# Altium footprint library SparkFun-Connectors.PCBLIB: 344 footprints (part 15 of 22)
Each footprint in its own frame and in the unit in brackets; x right, y up, seen from the top. Pads: shape width x height; smd on the part's side, far side on the other; paste and mask are expansions set on the pad; w line width, h text height; cw(c..) or ccw(c..) is an arc to the next point about the centre after c.
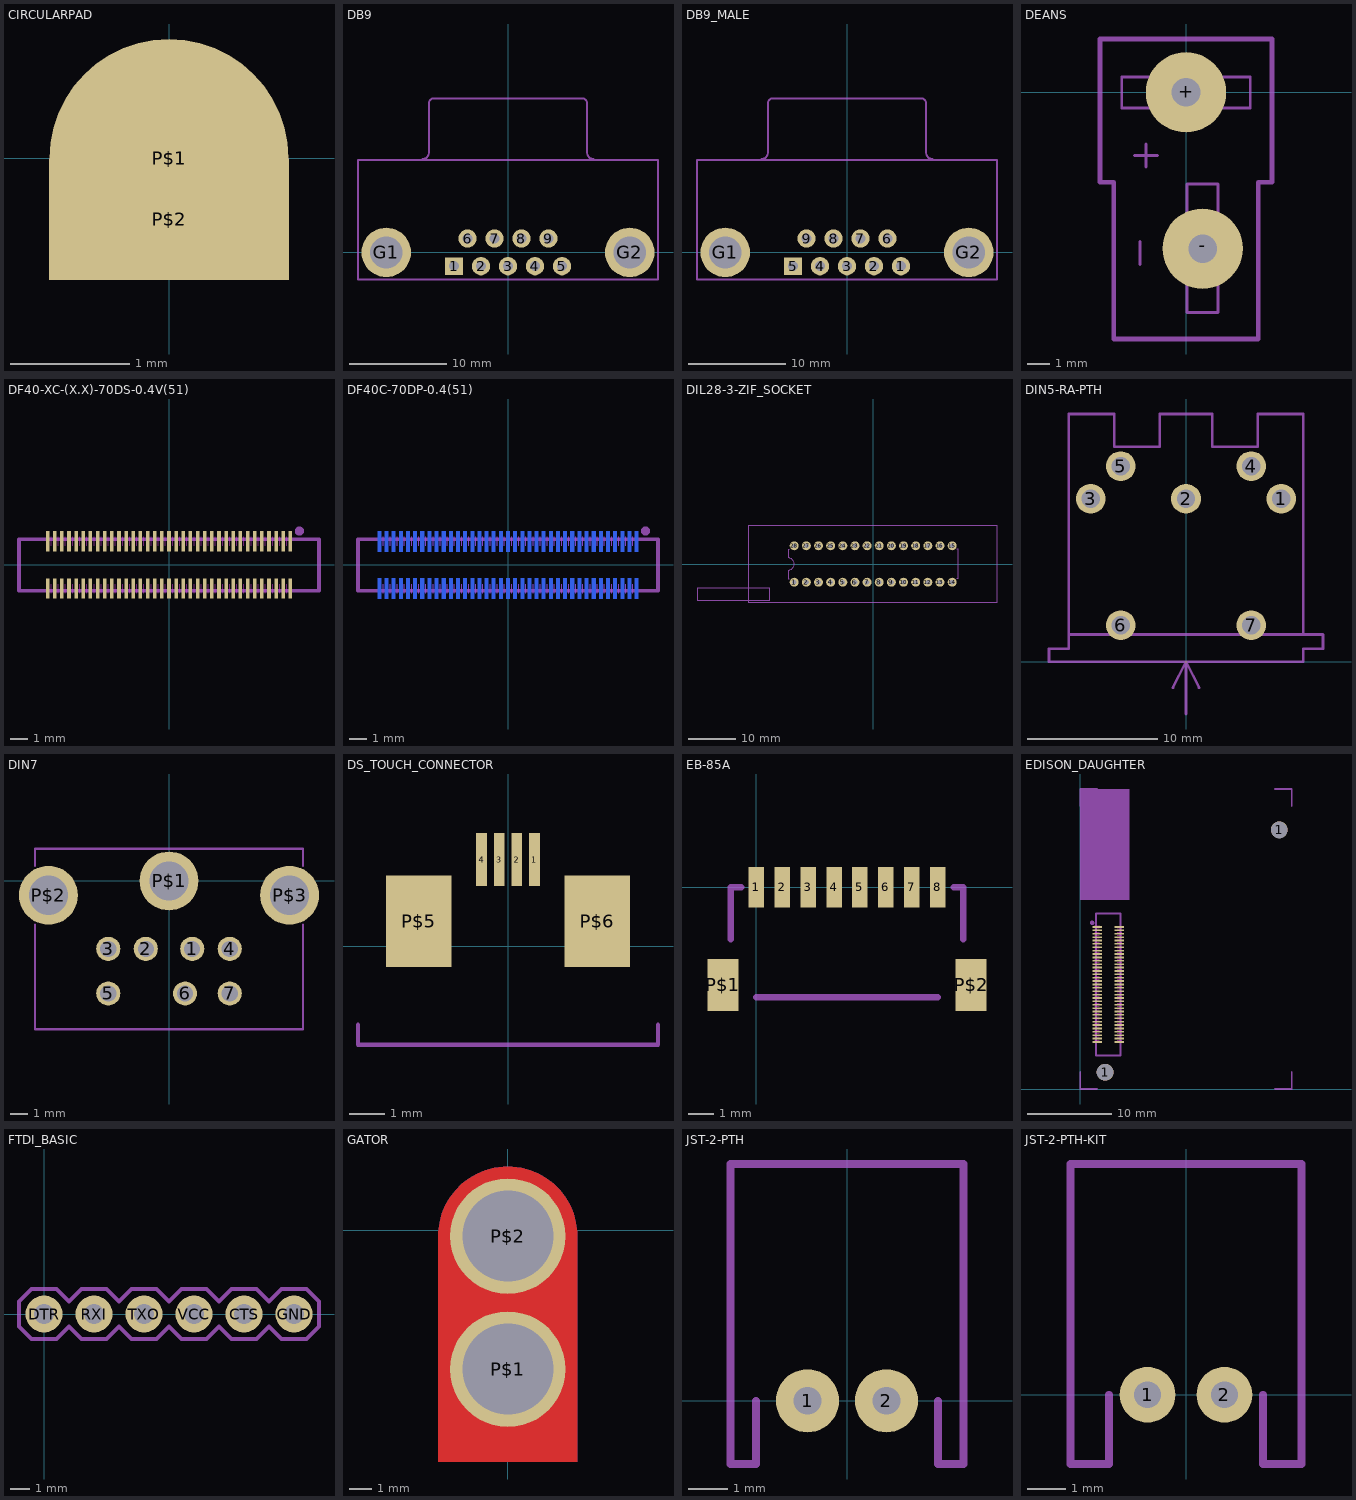
[diagram p14: the footprints below, top view; thin cyan lines are the x and y axes]

## CIRCULARPAD [mil]
pads (2):
  rrect100% 78.74x78.74 smd: P$1(0,0)
  rect 79x40 smd: P$2(0,-20)

## DB9 [mil]
pads (11):
  rect 71.65x71.65 / inner rect 60x60 / far side rect 71.65x71.65 hole 40: 1(-218.11,-55.91)
  round 74 / inner round 60 / far side round 74 hole 40: 2(-109.06,-55.91) 3(0,-55.91) 4(109.06,-55.91) 5(218.11,-55.91) 6(-163.39,55.91) 7(-54.33,55.91) 8(54.33,55.91) 9(163.39,55.91)
  round 200 / inner round 60 / far side round 200 hole 130: G1(-492.13,0) G2(492.13,0)
Mechanical 8:
  lines w8: -606.3,100.1 -606.3,374.02 606.3,374.02 606.3,100 ; -345,377.32 ccw(c-345,402.32) -320,402.32 -320,602.32 cw(c-300,602.32) -300,622.32 300,622.32 cw(c300,602.32) 320,602.32 320,402.32 ccw(c345,402.32) 345,377.32
Mechanical 22:
  lines w8: -606.3,100 -606.3,-110.24 606.3,-110.24 606.3,100

## DB9_MALE [mil]
pads (11):
  round 74 / inner round 60 / far side round 74 hole 40: 1(218.11,-55.91) 2(109.06,-55.91) 3(0,-55.91) 4(-109.06,-55.91) 6(163.39,55.91) 7(54.33,55.91) 8(-54.33,55.91) 9(-163.39,55.91)
  rect 71.65x71.65 / inner rect 60x60 / far side rect 71.65x71.65 hole 40: 5(-218.11,-55.91)
  round 200 / inner round 60 / far side round 200 hole 130: G1(-492.13,0) G2(492.13,0)
Mechanical 8:
  lines w8: -606.3,100.1 -606.3,374.02 606.3,374.02 606.3,100 ; -345,377.32 ccw(c-345,402.32) -320,402.32 -320,602.32 cw(c-300,602.32) -300,622.32 300,622.32 cw(c300,602.32) 320,602.32 320,402.32 ccw(c345,402.32) 345,377.32
Mechanical 22:
  lines w8: -606.3,100 -606.3,-110.24 606.3,-110.24 606.3,100

## DEANS [mil]
pads (2):
  round 140 / inner round 60 / far side round 140 hole 50: +(0,0) -(29,-272.5)
Mechanical 1:
  lines w5: -112,-27 112,-27 112,27 -112,27 -112,-27 ; 2,-384 2,-160 56,-160 56,-384 2,-384
Mechanical 22:
  lines w5: -90,-110 -50,-110 ; -80,-300 -80,-260 ; -70,-130 -70,-90
  lines w8: -150,-157 -150,93 150,93 150,-157 126,-157 126,-430 -126,-430 -126,-157 -150,-157

## DF40-XC-(X.X)-70DS-0.4V(51) [mm]
pads (70):
  rect 0.2x1.14 smd: 1(6.8,1.32) 2(6.8,-1.32) 3(6.4,1.32) 4(6.4,-1.32) 5(6,1.32) 6(6,-1.32) 7(5.6,1.32) 8(5.6,-1.32) 9(5.2,1.32) 10(5.2,-1.32) 11(4.8,1.32) 12(4.8,-1.32) 13(4.4,1.32) 14(4.4,-1.32) 15(4,1.32) 16(4,-1.32) 17(3.6,1.32) 18(3.6,-1.32) 19(3.2,1.32) 20(3.2,-1.32) 21(2.8,1.32) 22(2.8,-1.32) 23(2.4,1.32) 24(2.4,-1.32) 25(2,1.32) 26(2,-1.32) 27(1.6,1.32) 28(1.6,-1.32) 29(1.2,1.32) 30(1.2,-1.32) 31(0.8,1.32) 32(0.8,-1.32) 33(0.4,1.32) 34(0.4,-1.32) 35(0,1.32) 36(0,-1.32) 37(-0.4,1.32) 38(-0.4,-1.32) 39(-0.8,1.32) 40(-0.8,-1.32) 41(-1.2,1.32) 42(-1.2,-1.32) 43(-1.6,1.32) 44(-1.6,-1.32) 45(-2,1.32) 46(-2,-1.32) 47(-2.4,1.32) 48(-2.4,-1.32) 49(-2.8,1.32) 50(-2.8,-1.32) 51(-3.2,1.32) 52(-3.2,-1.32) 53(-3.6,1.32) 54(-3.6,-1.32) 55(-4,1.32) 56(-4,-1.32) 57(-4.4,1.32) 58(-4.4,-1.32) 59(-4.8,1.32) 60(-4.8,-1.32) 61(-5.2,1.32) 62(-5.2,-1.32) 63(-5.6,1.32) 64(-5.6,-1.32) 65(-6,1.32) 66(-6,-1.32) 67(-6.4,1.32) 68(-6.4,-1.32) 69(-6.8,1.32) 70(-6.8,-1.32)
Top Layer keep-out:
  lines w0.051: -6.6,-1.581 -6.6,-1.069 ; -6.6,1.064 -6.6,1.576 ; -6.2,-1.581 -6.2,-1.069 ; -6.2,1.064 -6.2,1.576 ; -5.8,-1.581 -5.8,-1.069 ; -5.8,1.064 -5.8,1.576 ; -5.4,-1.581 -5.4,-1.069 ; -5.4,1.064 -5.4,1.576 ; -5,-1.581 -5,-1.069 ; -5,1.064 -5,1.576 ; -4.6,-1.581 -4.6,-1.069 ; -4.6,1.064 -4.6,1.576 ; -4.2,-1.581 -4.2,-1.069 ; -4.2,1.064 -4.2,1.576 ; -3.8,-1.581 -3.8,-1.069 ; -3.8,1.064 -3.8,1.576 ; -3.4,-1.581 -3.4,-1.069 ; -3.4,1.064 -3.4,1.576 ; -3,-1.581 -3,-1.069 ; -3,1.064 -3,1.576 ; -2.6,-1.581 -2.6,-1.069 ; -2.6,1.064 -2.6,1.576 ; -2.2,-1.581 -2.2,-1.069 ; -2.2,1.064 -2.2,1.576 ; -1.8,-1.581 -1.8,-1.069 ; -1.8,1.064 -1.8,1.576 ; -1.4,-1.581 -1.4,-1.069 ; -1.4,1.064 -1.4,1.576 ; -1,-1.581 -1,-1.069 ; -1,1.064 -1,1.576 ; -0.6,-1.581 -0.6,-1.069 ; -0.6,1.064 -0.6,1.576 ; -0.2,-1.581 -0.2,-1.069 ; -0.2,1.064 -0.2,1.576 ; 0.2,-1.581 0.2,-1.069 ; 0.2,1.064 0.2,1.576 ; 0.6,-1.581 0.6,-1.069 ; 0.6,1.064 0.6,1.576 ; 1,-1.581 1,-1.069 ; 1,1.064 1,1.576 ; 1.4,-1.581 1.4,-1.069 ; 1.4,1.064 1.4,1.576 ; 1.8,-1.581 1.8,-1.069 ; 1.8,1.064 1.8,1.576 ; 2.2,-1.581 2.2,-1.069 ; 2.2,1.064 2.2,1.576 ; 2.6,-1.581 2.6,-1.069 ; 2.6,1.064 2.6,1.576 ; 3,-1.581 3,-1.069 ; 3,1.064 3,1.576 ; 3.4,-1.581 3.4,-1.069 ; 3.4,1.064 3.4,1.576 ; 3.8,-1.581 3.8,-1.069 ; 3.8,1.064 3.8,1.576 ; 4.2,-1.581 4.2,-1.069 ; 4.2,1.064 4.2,1.576 ; 4.6,-1.581 4.6,-1.069 ; 4.6,1.064 4.6,1.576 ; 5,-1.581 5,-1.069 ; 5,1.064 5,1.576 ; 5.4,-1.581 5.4,-1.069 ; 5.4,1.064 5.4,1.576 ; 5.8,-1.581 5.8,-1.069 ; 5.8,1.064 5.8,1.576 ; 6.2,-1.581 6.2,-1.069 ; 6.2,1.064 6.2,1.576 ; 6.6,-1.581 6.6,-1.069 ; 6.6,1.064 6.6,1.576
Mechanical 22:
  circle w0.305: c7.3,1.9 r0.1
  lines w0.203: -8.4,-1.44 8.4,-1.44 8.4,1.44 -8.4,1.44 -8.4,-1.44

## DF40C-70DP-0.4(51) [mm]
pads (74):
  rect 0.2x1.14 smd far side: 1(6.8,1.32) 2(6.8,-1.32) 3(6.4,1.32) 4(6.4,-1.32) 5(6,1.32) 6(6,-1.32) 7(5.6,1.32) 8(5.6,-1.32) 9(5.2,1.32) 10(5.2,-1.32) 11(4.8,1.32) 12(4.8,-1.32) 13(4.4,1.32) 14(4.4,-1.32) 15(4,1.32) 16(4,-1.32) 17(3.6,1.32) 18(3.6,-1.32) 19(3.2,1.32) 20(3.2,-1.32) 21(2.8,1.32) 22(2.8,-1.32) 23(2.4,1.32) 24(2.4,-1.32) 25(2,1.32) 26(2,-1.32) 27(1.6,1.32) 28(1.6,-1.32) 29(1.2,1.32) 30(1.2,-1.32) 31(0.8,1.32) 32(0.8,-1.32) 33(0.4,1.32) 34(0.4,-1.32) 35(0,1.32) 36(0,-1.32) 37(-0.4,1.32) 38(-0.4,-1.32) 39(-0.8,1.32) 40(-0.8,-1.32) 41(-1.2,1.32) 42(-1.2,-1.32) 43(-1.6,1.32) 44(-1.6,-1.32) 45(-2,1.32) 46(-2,-1.32) 47(-2.4,1.32) 48(-2.4,-1.32) 49(-2.8,1.32) 50(-2.8,-1.32) 51(-3.2,1.32) 52(-3.2,-1.32) 53(-3.6,1.32) 54(-3.6,-1.32) 55(-4,1.32) 56(-4,-1.32) 57(-4.4,1.32) 58(-4.4,-1.32) 59(-4.8,1.32) 60(-4.8,-1.32) 61(-5.2,1.32) 62(-5.2,-1.32) 63(-5.6,1.32) 64(-5.6,-1.32) 65(-6,1.32) 66(-6,-1.32) 67(-6.4,1.32) 68(-6.4,-1.32) 69(-6.8,1.32) 70(-6.8,-1.32) NC1(7.2,1.32) NC2(7.2,-1.32) NC3(-7.2,-1.32) NC4(-7.2,1.32)
Bottom Layer keep-out:
  lines w0.051: -7,-1.581 -7,-1.069 ; -7,1.064 -7,1.576 ; -6.6,-1.581 -6.6,-1.069 ; -6.6,1.064 -6.6,1.576 ; -6.2,-1.581 -6.2,-1.069 ; -6.2,1.064 -6.2,1.576 ; -5.8,-1.581 -5.8,-1.069 ; -5.8,1.064 -5.8,1.576 ; -5.4,-1.581 -5.4,-1.069 ; -5.4,1.064 -5.4,1.576 ; -5,-1.581 -5,-1.069 ; -5,1.064 -5,1.576 ; -4.6,-1.581 -4.6,-1.069 ; -4.6,1.064 -4.6,1.576 ; -4.2,-1.581 -4.2,-1.069 ; -4.2,1.064 -4.2,1.576 ; -3.8,-1.581 -3.8,-1.069 ; -3.8,1.064 -3.8,1.576 ; -3.4,-1.581 -3.4,-1.069 ; -3.4,1.064 -3.4,1.576 ; -3,-1.581 -3,-1.069 ; -3,1.064 -3,1.576 ; -2.6,-1.581 -2.6,-1.069 ; -2.6,1.064 -2.6,1.576 ; -2.2,-1.581 -2.2,-1.069 ; -2.2,1.064 -2.2,1.576 ; -1.8,-1.581 -1.8,-1.069 ; -1.8,1.064 -1.8,1.576 ; -1.4,-1.581 -1.4,-1.069 ; -1.4,1.064 -1.4,1.576 ; -1,-1.581 -1,-1.069 ; -1,1.064 -1,1.576 ; -0.6,-1.581 -0.6,-1.069 ; -0.6,1.064 -0.6,1.576 ; -0.2,-1.581 -0.2,-1.069 ; -0.2,1.064 -0.2,1.576 ; 0.2,-1.581 0.2,-1.069 ; 0.2,1.064 0.2,1.576 ; 0.6,-1.581 0.6,-1.069 ; 0.6,1.064 0.6,1.576 ; 1,-1.581 1,-1.069 ; 1,1.064 1,1.576 ; 1.4,-1.581 1.4,-1.069 ; 1.4,1.064 1.4,1.576 ; 1.8,-1.581 1.8,-1.069 ; 1.8,1.064 1.8,1.576 ; 2.2,-1.581 2.2,-1.069 ; 2.2,1.064 2.2,1.576 ; 2.6,-1.581 2.6,-1.069 ; 2.6,1.064 2.6,1.576 ; 3,-1.581 3,-1.069 ; 3,1.064 3,1.576 ; 3.4,-1.581 3.4,-1.069 ; 3.4,1.064 3.4,1.576 ; 3.8,-1.581 3.8,-1.069 ; 3.8,1.064 3.8,1.576 ; 4.2,-1.581 4.2,-1.069 ; 4.2,1.064 4.2,1.576 ; 4.6,-1.581 4.6,-1.069 ; 4.6,1.064 4.6,1.576 ; 5,-1.581 5,-1.069 ; 5,1.064 5,1.576 ; 5.4,-1.581 5.4,-1.069 ; 5.4,1.064 5.4,1.576 ; 5.8,-1.581 5.8,-1.069 ; 5.8,1.064 5.8,1.576 ; 6.2,-1.581 6.2,-1.069 ; 6.2,1.064 6.2,1.576 ; 6.6,-1.581 6.6,-1.069 ; 6.6,1.064 6.6,1.576 ; 7,-1.581 7,-1.069 ; 7,1.064 7,1.576
Mechanical 23:
  circle w0.305: c7.7,1.9 r0.1
  lines w0.203: -8.4,-1.44 8.4,-1.44 8.4,1.44 -8.4,1.44 -8.4,-1.44

## DIL28-3-ZIF_SOCKET [mil]
pads (28):
  round 74 / inner round 60 / far side round 74 hole 40: 1(-650,-150) 2(-550,-150) 3(-450,-150) 4(-350,-150) 5(-250,-150) 6(-150,-150) 7(-50,-150) 8(50,-150) 9(150,-150) 10(250,-150) 11(350,-150) 12(450,-150) 13(550,-150) 14(650,-150) 15(650,150) 16(550,150) 17(450,150) 18(350,150) 19(250,150) 20(150,150) 21(50,150) 22(-50,150) 23(-150,150) 24(-250,150) 25(-350,150) 26(-450,150) 27(-550,150) 28(-650,150)
Mechanical 8:
  lines w5: -1027.99,-314.96 1019.25,-314.96 1019.25,314.96 -1027.99,314.96 -1027.99,-314.96
  lines w10: -1450,-300 -1450,-200 -850,-200 -850,-300 -1450,-300
Mechanical 22:
  lines w8: -690,-120 -700,-120 -700,-50 ccw(c-700,0) -700,50 -700,120 -690,120 ; 690,-120 700,-120 700,120 690,120

## DIN5-RA-PTH [mil]
pads (7):
  round 90 / inner round 60 / far side round 90 hole 55.12: 1(287.4,492.13) 2(0,492.13) 3(-287.4,492.13) 4(196.85,590.55) 5(-196.85,590.55) 6(-196.85,110.24) 7(196.85,110.24)
Mechanical 8:
  lines w8: -157.48,0 0,0 ; -39.37,-78.74 0,0 ; 0,-157.48 0,0 ; 39.37,-78.74 0,0 ; 157.48,0 0,0
Mechanical 22:
  lines w8: -354.33,78.74 -354.33,39.37 -413.39,39.37 -413.39,0 354.33,0 354.33,39.37 413.39,39.37 413.39,82.68 354.33,82.68 ; 354.33,82.68 354.33,748.03 216.54,748.03 216.54,649.61 78.74,649.61 78.74,748.03 -78.74,748.03 -78.74,649.61 -216.54,649.61 -216.54,748.03 -354.33,748.03 -354.33,82.68 354.33,82.68

## DIN7 [mil]
pads (10):
  round 53.15 / inner round 60 / far side round 53.15 hole 35.43: 1(51.18,-149.61) 2(-51.18,-149.61) 3(-133.86,-149.61) 4(133.86,-149.61) 5(-133.86,-248.03) 6(35.43,-248.03) 7(133.86,-248.03)
  round 129.91 / inner round 60 / far side round 129.91 hole 86.61: P$1(0,0) P$2(-265.75,-31.5) P$3(265.75,-31.5)
Mechanical 22:
  lines w5: -295.28,-96.46 -295.28,-326.77 295.28,-326.77 295.28,-96.46 ; -295.28,33.46 -295.28,70.87 295.28,70.87 295.28,33.46

## DS_TOUCH_CONNECTOR [mm]
pads (6):
  rect 0.3x1.5 smd: 1(0.75,2.45) 2(0.25,2.45) 3(-0.25,2.45) 4(-0.75,2.45)
  rect 1.85x2.6 smd: P$5(-2.525,0.7) P$6(2.525,0.7)
Mechanical 22:
  lines w0.127: -4.25,-2.23 -4.25,-2.8 4.25,-2.8 4.25,-2.23

## EB-85A [mm]
pads (10):
  rect 0.6x1.55 smd: 1(0,0) 2(1,0) 3(2,0) 4(3,0) 5(4,0) 6(5,0) 7(6,0) 8(7,0)
  rect 1.2x2 smd: P$1(-1.3,-3.775) P$2(8.3,-3.775)
Mechanical 22:
  lines w0.254: -1,-2 -1,0 -0.6,0 ; 0,-4.25 7,-4.25 ; 7.625,0 8,0 8,-2

## EDISON_DAUGHTER [mm]
pads (72):
  rect 1.14x0.2 smd: 1(1.98,19.17) 2(4.62,19.17) 3(1.98,18.77) 4(4.62,18.77) 5(1.98,18.37) 6(4.62,18.37) 7(1.98,17.97) 8(4.62,17.97) 9(1.98,17.57) 10(4.62,17.57) 11(1.98,17.17) 12(4.62,17.17) 13(1.98,16.77) 14(4.62,16.77) 15(1.98,16.37) 16(4.62,16.37) 17(1.98,15.97) 18(4.62,15.97) 19(1.98,15.57) 20(4.62,15.57) 21(1.98,15.17) 22(4.62,15.17) 23(1.98,14.77) 24(4.62,14.77) 25(1.98,14.37) 26(4.62,14.37) 27(1.98,13.97) 28(4.62,13.97) 29(1.98,13.57) 30(4.62,13.57) 31(1.98,13.17) 32(4.62,13.17) 33(1.98,12.77) 34(4.62,12.77) 35(1.98,12.37) 36(4.62,12.37) 37(1.98,11.97) 38(4.62,11.97) 39(1.98,11.57) 40(4.62,11.57) 41(1.98,11.17) 42(4.62,11.17) 43(1.98,10.77) 44(4.62,10.77) 45(1.98,10.37) 46(4.62,10.37) 47(1.98,9.97) 48(4.62,9.97) 49(1.98,9.57) 50(4.62,9.57) 51(1.98,9.17) 52(4.62,9.17) 53(1.98,8.77) 54(4.62,8.77) 55(1.98,8.37) 56(4.62,8.37) 57(1.98,7.97) 58(4.62,7.97) 59(1.98,7.57) 60(4.62,7.57) 61(1.98,7.17) 62(4.62,7.17) 63(1.98,6.77) 64(4.62,6.77) 65(1.98,6.37) 66(4.62,6.37) 67(1.98,5.97) 68(4.62,5.97) 69(1.98,5.57) 70(4.62,5.57)
  round 2 hole 2 unplated: 1(2.93,1.98) 1(23.53,30.67)
Top Layer keep-out:
  lines w0.025: 1.663,19.319 2.297,19.319
  lines w0.051: 1.724,5.77 2.236,5.77 ; 1.724,6.17 2.236,6.17 ; 1.724,6.57 2.236,6.57 ; 1.724,6.97 2.236,6.97 ; 1.724,7.37 2.236,7.37 ; 1.724,7.77 2.236,7.77 ; 1.724,8.17 2.236,8.17 ; 1.724,8.57 2.236,8.57 ; 1.724,8.97 2.236,8.97 ; 1.724,9.37 2.236,9.37 ; 1.724,9.77 2.236,9.77 ; 1.724,10.17 2.236,10.17 ; 1.724,10.57 2.236,10.57 ; 1.724,10.97 2.236,10.97 ; 1.724,11.37 2.236,11.37 ; 1.724,11.77 2.236,11.77 ; 1.724,12.17 2.236,12.17 ; 1.724,12.57 2.236,12.57 ; 1.724,12.97 2.236,12.97 ; 1.724,13.37 2.236,13.37 ; 1.724,13.77 2.236,13.77 ; 1.724,14.17 2.236,14.17 ; 1.724,14.57 2.236,14.57 ; 1.724,14.97 2.236,14.97 ; 1.724,15.37 2.236,15.37 ; 1.724,15.77 2.236,15.77 ; 1.724,16.17 2.236,16.17 ; 1.724,16.57 2.236,16.57 ; 1.724,16.97 2.236,16.97 ; 1.724,17.37 2.236,17.37 ; 1.724,17.77 2.236,17.77 ; 1.724,18.17 2.236,18.17 ; 1.724,18.57 2.236,18.57 ; 1.724,18.97 2.236,18.97 ; 4.369,5.77 4.881,5.77 ; 4.369,6.17 4.881,6.17 ; 4.369,6.57 4.881,6.57 ; 4.369,6.97 4.881,6.97 ; 4.369,7.37 4.881,7.37 ; 4.369,7.77 4.881,7.77 ; 4.369,8.17 4.881,8.17 ; 4.369,8.57 4.881,8.57 ; 4.369,8.97 4.881,8.97 ; 4.369,9.37 4.881,9.37 ; 4.369,9.77 4.881,9.77 ; 4.369,10.17 4.881,10.17 ; 4.369,10.57 4.881,10.57 ; 4.369,10.97 4.881,10.97 ; 4.369,11.37 4.881,11.37 ; 4.369,11.77 4.881,11.77 ; 4.369,12.17 4.881,12.17 ; 4.369,12.57 4.881,12.57 ; 4.369,12.97 4.881,12.97 ; 4.369,13.37 4.881,13.37 ; 4.369,13.77 4.881,13.77 ; 4.369,14.17 4.881,14.17 ; 4.369,14.57 4.881,14.57 ; 4.369,14.97 4.881,14.97 ; 4.369,15.37 4.881,15.37 ; 4.369,15.77 4.881,15.77 ; 4.369,16.17 4.881,16.17 ; 4.369,16.57 4.881,16.57 ; 4.369,16.97 4.881,16.97 ; 4.369,17.37 4.881,17.37 ; 4.369,17.77 4.881,17.77 ; 4.369,18.17 4.881,18.17 ; 4.369,18.57 4.881,18.57 ; 4.369,18.97 4.881,18.97
Mechanical 22:
  circle w0.305: c1.4,19.67 r0.1
  lines w0.203: 0,2 0,0 2,0 ; 0,33.5 0,35.5 2,35.5 ; 23,0 25,0 25,2 ; 23,35.5 25,35.5 25,33.5 ; 1.86,3.97 1.86,20.77 4.74,20.77 4.74,3.97 1.86,3.97
Mechanical 30:
  region: 5.78,35.5 5.78,22.39 0,22.39 0,35.5
Mechanical 31:
  region: 5.78,35.5 5.78,22.39 0,22.39 0,35.5

## FTDI_BASIC [mil]
pads (6):
  round 74 / inner round 60 / far side round 74 hole 40: CTS(400,0) DTR(0,0) GND(500,0) RXI(100,0) TXO(200,0) VCC(300,0)
Mechanical 8:
  region: 490,-10 490,10 510,10 510,-10
  region: 390,-10 390,10 410,10 410,-10
  region: 290,-10 290,10 310,10 310,-10
  region: 190,-10 190,10 210,10 210,-10
  region: 90,-10 90,10 110,10 110,-10
  region: -10,-10 -10,10 10,10 10,-10
Mechanical 22:
  lines w8: -50,-25 -50,25 -25,50 25,50 50,25 75,50 125,50 150,25 175,50 225,50 250,25 275,50 325,50 350,25 375,50 425,50 450,25 475,50 525,50 550,25 550,-25 525,-50 475,-50 450,-25 425,-50 375,-50 350,-25 325,-50 275,-50 250,-25 225,-50 175,-50 150,-25 125,-50 75,-50 50,-25 25,-50 -25,-50 -50,-25

## GATOR [mil]
pads (2):
  round 200 / inner round 60 / far side round 200 hole 157.5: P$1(0,-240) P$2(0,-10)
Top Layer:
  region: 0,110 -7.87,110 -23.46,107.95 -38.66,103.88 -53.19,97.86 -66.81,89.99 -79.29,80.41 -90.41,69.29 -99.99,56.81 -107.86,43.19 -113.88,28.66 -117.95,13.46 -120,-2.13 -120,-10 -120,-400 120,-400 120,-10 120,-2.13 117.95,13.46 113.88,28.66 107.86,43.19 99.99,56.81 90.41,69.29 79.29,80.41 66.81,89.99 53.19,97.86 38.66,103.88 23.46,107.95 7.87,110
Bottom Layer:
  region: 0,110 -7.87,110 -23.46,107.95 -38.66,103.88 -53.19,97.86 -66.81,89.99 -79.29,80.41 -90.41,69.29 -99.99,56.81 -107.86,43.19 -113.88,28.66 -117.95,13.46 -120,-2.13 -120,-10 -120,-400 120,-400 120,-10 120,-2.13 117.95,13.46 113.88,28.66 107.86,43.19 99.99,56.81 90.41,69.29 79.29,80.41 66.81,89.99 53.19,97.86 38.66,103.88 23.46,107.95 7.87,110
Top Solder:
  region: 124,-404 -124,-404 -124,-4 -124.27,4.02 -122.53,19.97 -118.54,35.51 -112.4,50.34 -104.23,64.14 -94.18,76.65 -82.46,87.61 -69.31,96.81 -54.99,104.05 -39.79,109.19 -24.01,112.12 -7.98,112.8 0,112 7.73,112.39 23.17,111.15 38.32,107.91 52.91,102.72 66.7,95.66 79.45,86.87 90.94,76.49 100.98,64.7 109.4,51.69 116.04,37.7 120.81,22.97 123.61,7.73 124,0
Bottom Solder:
  region: 125,-402 -123,-402 -123,-2 -123.27,6.02 -121.53,21.97 -117.54,37.51 -111.4,52.34 -103.23,66.14 -93.18,78.65 -81.46,89.61 -68.31,98.81 -53.99,106.05 -38.79,111.19 -23.01,114.12 -6.98,114.8 1,114 8.73,114.39 24.17,113.15 39.32,109.91 53.91,104.72 67.7,97.66 80.45,88.87 91.94,78.49 101.98,66.7 110.4,53.69 117.04,39.7 121.81,24.97 124.61,9.73 125,2

## JST-2-PTH [mm]
pads (2):
  round 1.6 / inner round 1.524 / far side round 1.6 hole 0.7: 1(-1,0) 2(1,0)
Mechanical 22:
  lines w0.203: -2.3,0 -2.3,-1.6 -2.95,-1.6 -2.95,6 2.95,6 2.95,-1.6 2.3,-1.6 2.3,0

## JST-2-PTH-KIT [mil]
pads (2):
  round 57 / inner round 60 / far side round 57 hole 27.56: 1(-39.37,0) 2(39.37,0)
Top Solder:
  region: -39.37,-11.28 -41.61,-11.28 -45.76,-9.57 -48.94,-6.39 -50.65,-2.24 -50.65,0 -50.65,2.24 -48.93,6.39 -45.76,9.56 -41.61,11.28 -39.37,11.28 -37.13,11.28 -32.98,9.56 -29.81,6.39 -28.09,2.24 -28.09,0 -28.09,-2.24 -29.81,-6.39 -32.98,-9.56 -37.13,-11.28
  region: 39.37,-11.28 37.13,-11.28 32.98,-9.57 29.8,-6.39 28.09,-2.24 28.09,0 28.09,2.24 29.81,6.39 32.98,9.56 37.13,11.28 39.37,11.28 41.61,11.28 45.76,9.56 48.93,6.39 50.65,2.24 50.65,0 50.65,-2.24 48.93,-6.39 45.76,-9.56 41.61,-11.28
Bottom Solder:
  region: -39.27,-26 -41.84,-26.01 -46.87,-25.01 -51.62,-23.06 -55.89,-20.22 -59.52,-16.6 -62.38,-12.33 -64.36,-7.6 -65.37,-2.57 -65.37,0 -65.37,2.56 -64.37,7.58 -62.41,12.32 -59.57,16.57 -55.95,20.2 -51.69,23.04 -46.95,25 -41.93,26 -39.37,26 -36.81,26 -31.79,25 -27.05,23.04 -22.8,20.2 -19.17,16.57 -16.33,12.32 -14.37,7.58 -13.37,2.56 -13.37,0 -13.36,-2.56 -14.35,-7.57 -16.29,-12.3 -19.13,-16.56 -22.73,-20.18 -26.98,-23.03 -31.7,-24.99 -36.71,-26
  region: 39.47,-26 36.9,-26.01 31.87,-25.01 27.12,-23.06 22.85,-20.22 19.22,-16.6 16.36,-12.33 14.38,-7.6 13.37,-2.57 13.37,0 13.37,2.56 14.37,7.58 16.33,12.32 19.17,16.57 22.79,20.2 27.05,23.04 31.79,25 36.81,26 39.37,26 41.93,26 46.95,25 51.69,23.04 55.94,20.2 59.57,16.57 62.41,12.32 64.37,7.58 65.37,2.56 65.37,0 65.38,-2.56 64.39,-7.57 62.45,-12.3 59.61,-16.56 56.01,-20.18 51.76,-23.03 47.04,-24.99 42.03,-26
Mechanical 8:
  lines w8: -78.74,0 -78.74,-70.87 -118.11,-70.87 -118.11,236.22 118.11,236.22 118.11,-70.87 78.74,-70.87 78.74,0